# EAGLE library part 691311500113 (library Wurth_Terminal_Blocks_Connectors_rev15d)
WR-TBL Serie 311 - 5.08 mm Close Vertical PCB Header , 13 Pins=>Code : Con_TBL_Pluggable_5.08_PCB_THT_Simple_V_691311500113 <http://katalog.we-online.de/media/images/eican/Con_TBL_Pluggable_5.08_PCB_THT_Simple_V_6913115001xx_pf2.jpg> Details see: http://katalog.we-online.de/en/em/691_311_500_1xx Created 2014-06-23, Karrer Zheng 2014 (C) Würth Elektronik
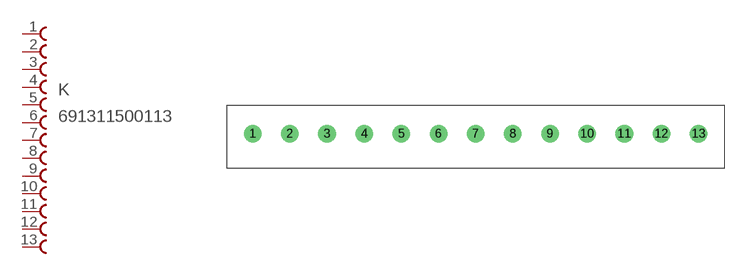
[diagram p79: symbol with the pads of 691311500113; footprint 691311500113]

Designator prefix K

## 691311500113  [691311500113]
1  1  pas
2  2  pas
3  3  pas
4  4  pas
5  5  pas
6  6  pas
7  7  pas
8  8  pas
9  9  pas
10  10  pas
11  11  pas
12  12  pas
13  13  pas

## Footprint 691311500113 (pad centres in mm)
WR-TBL Serie 311 - 5.08 mm Close Vertical PCB Header , 13 Pins
drill 1.6: 1 -60.96,0; 2 -55.88,0; 3 -50.8,0; 4 -45.72,0; 5 -40.64,0; 6 -35.56,0; 7 -30.48,0; 8 -25.4,0; 9 -20.32,0; 10 -15.24,0; 11 -10.16,0; 12 -5.08,0; 13 0,0